# Altium schematic symbol library MCU_STC.SchLib: 10 symbols
Pins are listed as number, name and electrical type; pins without a type are passive.

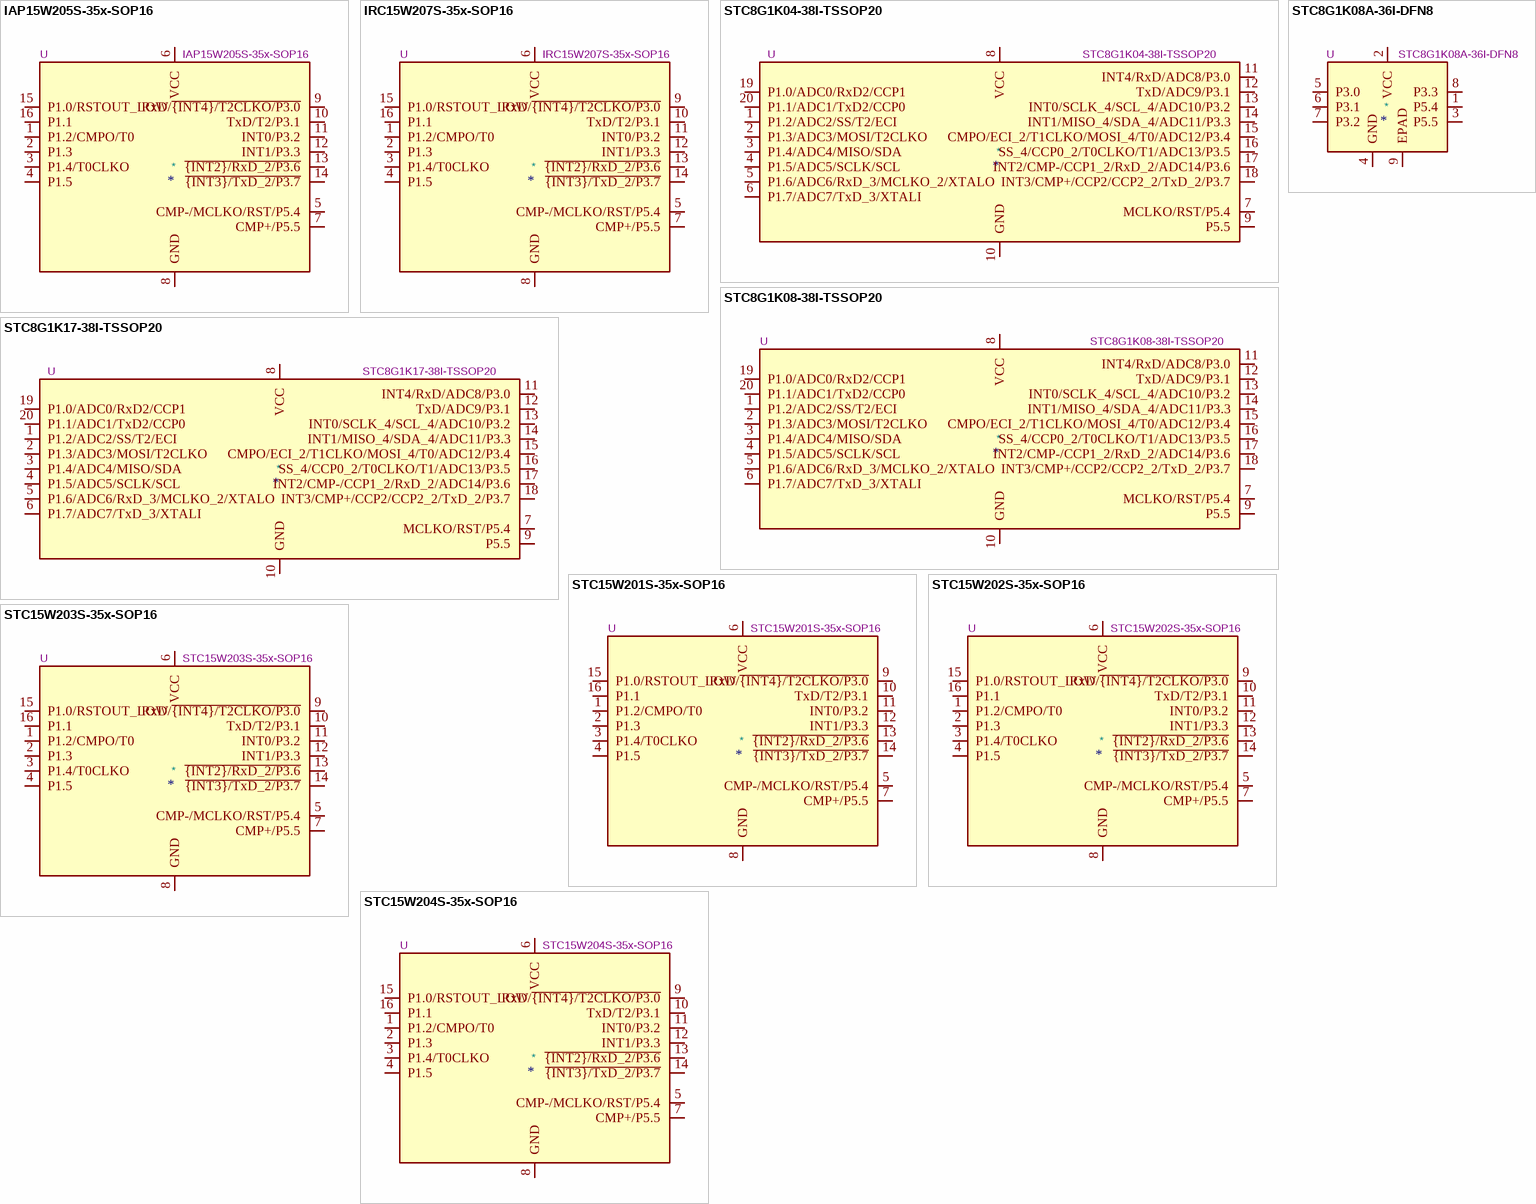
[diagram p0: symbols IAP15W205S-35x-SOP16 to STC15W204S-35x-SOP16]

## IAP15W205S-35x-SOP16
designator *  value IAP15W205S-35x-SOP16  Reference: U
Single Chip MCU based on the 8051 architecture, 5KB Flash, unified program/data memory, SOP-16; ki_keywords: STC 8051 microcontroller; ki_fp_filters: STC?SOP*3.9x9.9mm*P1.27mm*; Footprint: Package_SO:STC_SOP-16_3.9x9.9mm_P1.27mm; Datasheet: www.stcmicro.com/datasheet/STC15F2K60S2-en.pdf; Description_: Single Chip MCU based on the 8051 architecture, 5KB Flash, unified program/data memory, SOP-16
pins: 1 P1.2/CMPO/T0, 2 P1.3, 3 P1.4/T0CLKO, 4 P1.5, 5 CMP-/MCLKO/RST/P5.4, 6 VCC, 7 CMP+/P5.5, 8 GND, 9 RxD/~{{INT4}/T2CLKO/P3.0}, 10 TxD/T2/P3.1, 11 INT0/P3.2, 12 INT1/P3.3, 13 ~{{INT2}/RxD_2/P3.6}, 14 ~{{INT3}/TxD_2/P3.7}, 15 P1.0/RSTOUT_LOW, 16 P1.1

## IRC15W207S-35x-SOP16
designator *  value IRC15W207S-35x-SOP16  Reference: U
Single Chip MCU based on the 8051 architecture, 7.5KB Flash, unified program/data memory, fixed 24MHz Clock, SOP-16; ki_keywords: STC 8051 microcontroller; ki_fp_filters: STC?SOP*3.9x9.9mm*P1.27mm*; Footprint: Package_SO:STC_SOP-16_3.9x9.9mm_P1.27mm; Datasheet: www.stcmicro.com/datasheet/STC15F2K60S2-en.pdf; Description_: Single Chip MCU based on the 8051 architecture, 7.5KB Flash, unified program/data memory, fixed 24MHz Clock, SOP-16
pins: 1 P1.2/CMPO/T0, 2 P1.3, 3 P1.4/T0CLKO, 4 P1.5, 5 CMP-/MCLKO/RST/P5.4, 6 VCC, 7 CMP+/P5.5, 8 GND, 9 RxD/~{{INT4}/T2CLKO/P3.0}, 10 TxD/T2/P3.1, 11 INT0/P3.2, 12 INT1/P3.3, 13 ~{{INT2}/RxD_2/P3.6}, 14 ~{{INT3}/TxD_2/P3.7}, 15 P1.0/RSTOUT_LOW, 16 P1.1

## STC8G1K04-38I-TSSOP20
designator *  value STC8G1K04-38I-TSSOP20  Reference: U
Single Chip MCU based on the 8051 architecture, 4KB Flash, 8KB EEPROM, TSSOP-20; ki_keywords: STC 8051 microcontroller; ki_fp_filters: TSSOP?20*4.4x6.5mm*P0.65mm*; Footprint: Package_SO:TSSOP-20_4.4x6.5mm_P0.65mm; Datasheet: www.stcmicro.com/datasheet/STC8G-en.pdf; Description_: Single Chip MCU based on the 8051 architecture, 4KB Flash, 8KB EEPROM, TSSOP-20
pins: 1 P1.2/ADC2/SS/T2/ECI, 2 P1.3/ADC3/MOSI/T2CLKO, 3 P1.4/ADC4/MISO/SDA, 4 P1.5/ADC5/SCLK/SCL, 5 P1.6/ADC6/RxD_3/MCLKO_2/XTALO, 6 P1.7/ADC7/TxD_3/XTALI, 7 MCLKO/RST/P5.4, 8 VCC, 9 P5.5, 10 GND, 11 INT4/RxD/ADC8/P3.0, 12 TxD/ADC9/P3.1, 13 INT0/SCLK_4/SCL_4/ADC10/P3.2, 14 INT1/MISO_4/SDA_4/ADC11/P3.3, 15 CMPO/ECI_2/T1CLKO/MOSI_4/T0/ADC12/P3.4, 16 SS_4/CCP0_2/T0CLKO/T1/ADC13/P3.5, 17 INT2/CMP-/CCP1_2/RxD_2/ADC14/P3.6, 18 INT3/CMP+/CCP2/CCP2_2/TxD_2/P3.7, 19 P1.0/ADC0/RxD2/CCP1, 20 P1.1/ADC1/TxD2/CCP0

## STC8G1K08-38I-TSSOP20
designator *  value STC8G1K08-38I-TSSOP20  Reference: U
Single Chip MCU based on the 8051 architecture, 8KB Flash, 4KB EEPROM, TSSOP-20; ki_keywords: STC 8051 microcontroller; ki_fp_filters: TSSOP?20*4.4x6.5mm*P0.65mm*; Footprint: Package_SO:TSSOP-20_4.4x6.5mm_P0.65mm; Datasheet: www.stcmicro.com/datasheet/STC8G-en.pdf; Description_: Single Chip MCU based on the 8051 architecture, 8KB Flash, 4KB EEPROM, TSSOP-20
pins: 1 P1.2/ADC2/SS/T2/ECI, 2 P1.3/ADC3/MOSI/T2CLKO, 3 P1.4/ADC4/MISO/SDA, 4 P1.5/ADC5/SCLK/SCL, 5 P1.6/ADC6/RxD_3/MCLKO_2/XTALO, 6 P1.7/ADC7/TxD_3/XTALI, 7 MCLKO/RST/P5.4, 8 VCC, 9 P5.5, 10 GND, 11 INT4/RxD/ADC8/P3.0, 12 TxD/ADC9/P3.1, 13 INT0/SCLK_4/SCL_4/ADC10/P3.2, 14 INT1/MISO_4/SDA_4/ADC11/P3.3, 15 CMPO/ECI_2/T1CLKO/MOSI_4/T0/ADC12/P3.4, 16 SS_4/CCP0_2/T0CLKO/T1/ADC13/P3.5, 17 INT2/CMP-/CCP1_2/RxD_2/ADC14/P3.6, 18 INT3/CMP+/CCP2/CCP2_2/TxD_2/P3.7, 19 P1.0/ADC0/RxD2/CCP1, 20 P1.1/ADC1/TxD2/CCP0

## STC8G1K08A-36I-DFN8
designator *  value STC8G1K08A-36I-DFN8  Reference: U
Single Chip MCU based on the 8051 architecture, 8KiB Flash, 1.25KiB SRAM, 4KiB EEPROM, 1.9..5.5V, 36 MHz, 6 GPIO, DFN-8; ki_keywords: STC microcontroller I2C SPI UART PWM ADC ISP; ki_fp_filters: *DFN*3x3mm*P0.5mm*EP1.7x2.4mm*; Footprint: Package_DFN_QFN:DFN-8-1EP_3x3mm_P0.5mm_EP1.7x2.4mm; Datasheet: https://stcmicro.com/datasheet/STC8G-en.pdf; Description_: Single Chip MCU based on the 8051 architecture, 8KiB Flash, 1.25KiB SRAM, 4KiB EEPROM, 1.9..5.5V, 36 MHz, 6 GPIO, DFN-8
pins: 1 P5.4, 2 VCC, 3 P5.5, 4 GND, 5 P3.0, 6 P3.1, 7 P3.2, 8 P3.3, 9 EPAD

## STC8G1K17-38I-TSSOP20
designator *  value STC8G1K17-38I-TSSOP20  Reference: U
Single Chip MCU based on the 8051 architecture, 17KB Flash, IAP, TSSOP-20; ki_keywords: STC 8051 microcontroller; ki_fp_filters: TSSOP?20*4.4x6.5mm*P0.65mm*; Footprint: Package_SO:TSSOP-20_4.4x6.5mm_P0.65mm; Datasheet: www.stcmicro.com/datasheet/STC8G-en.pdf; Description_: Single Chip MCU based on the 8051 architecture, 17KB Flash, IAP, TSSOP-20
pins: 1 P1.2/ADC2/SS/T2/ECI, 2 P1.3/ADC3/MOSI/T2CLKO, 3 P1.4/ADC4/MISO/SDA, 4 P1.5/ADC5/SCLK/SCL, 5 P1.6/ADC6/RxD_3/MCLKO_2/XTALO, 6 P1.7/ADC7/TxD_3/XTALI, 7 MCLKO/RST/P5.4, 8 VCC, 9 P5.5, 10 GND, 11 INT4/RxD/ADC8/P3.0, 12 TxD/ADC9/P3.1, 13 INT0/SCLK_4/SCL_4/ADC10/P3.2, 14 INT1/MISO_4/SDA_4/ADC11/P3.3, 15 CMPO/ECI_2/T1CLKO/MOSI_4/T0/ADC12/P3.4, 16 SS_4/CCP0_2/T0CLKO/T1/ADC13/P3.5, 17 INT2/CMP-/CCP1_2/RxD_2/ADC14/P3.6, 18 INT3/CMP+/CCP2/CCP2_2/TxD_2/P3.7, 19 P1.0/ADC0/RxD2/CCP1, 20 P1.1/ADC1/TxD2/CCP0

## STC15W201S-35x-SOP16
designator *  value STC15W201S-35x-SOP16  Reference: U
Single Chip MCU based on the 8051 architecture, 1KB Flash, 4KB EEPROM, SOP-16; ki_keywords: STC 8051 microcontroller; ki_fp_filters: STC?SOP*3.9x9.9mm*P1.27mm*; Footprint: Package_SO:STC_SOP-16_3.9x9.9mm_P1.27mm; Datasheet: www.stcmicro.com/datasheet/STC15F2K60S2-en.pdf; Description_: Single Chip MCU based on the 8051 architecture, 1KB Flash, 4KB EEPROM, SOP-16
pins: 1 P1.2/CMPO/T0, 2 P1.3, 3 P1.4/T0CLKO, 4 P1.5, 5 CMP-/MCLKO/RST/P5.4, 6 VCC, 7 CMP+/P5.5, 8 GND, 9 RxD/~{{INT4}/T2CLKO/P3.0}, 10 TxD/T2/P3.1, 11 INT0/P3.2, 12 INT1/P3.3, 13 ~{{INT2}/RxD_2/P3.6}, 14 ~{{INT3}/TxD_2/P3.7}, 15 P1.0/RSTOUT_LOW, 16 P1.1

## STC15W202S-35x-SOP16
designator *  value STC15W202S-35x-SOP16  Reference: U
Single Chip MCU based on the 8051 architecture, 2KB Flash, 3KB EEPROM, SOP-16; ki_keywords: STC 8051 microcontroller; ki_fp_filters: STC?SOP*3.9x9.9mm*P1.27mm*; Footprint: Package_SO:STC_SOP-16_3.9x9.9mm_P1.27mm; Datasheet: www.stcmicro.com/datasheet/STC15F2K60S2-en.pdf; Description_: Single Chip MCU based on the 8051 architecture, 2KB Flash, 3KB EEPROM, SOP-16
pins: 1 P1.2/CMPO/T0, 2 P1.3, 3 P1.4/T0CLKO, 4 P1.5, 5 CMP-/MCLKO/RST/P5.4, 6 VCC, 7 CMP+/P5.5, 8 GND, 9 RxD/~{{INT4}/T2CLKO/P3.0}, 10 TxD/T2/P3.1, 11 INT0/P3.2, 12 INT1/P3.3, 13 ~{{INT2}/RxD_2/P3.6}, 14 ~{{INT3}/TxD_2/P3.7}, 15 P1.0/RSTOUT_LOW, 16 P1.1

## STC15W203S-35x-SOP16
designator *  value STC15W203S-35x-SOP16  Reference: U
Single Chip MCU based on the 8051 architecture, 3KB Flash, 2KB EEPROM, SOP-16; ki_keywords: STC 8051 microcontroller; ki_fp_filters: STC?SOP*3.9x9.9mm*P1.27mm*; Footprint: Package_SO:STC_SOP-16_3.9x9.9mm_P1.27mm; Datasheet: www.stcmicro.com/datasheet/STC15F2K60S2-en.pdf; Description_: Single Chip MCU based on the 8051 architecture, 3KB Flash, 2KB EEPROM, SOP-16
pins: 1 P1.2/CMPO/T0, 2 P1.3, 3 P1.4/T0CLKO, 4 P1.5, 5 CMP-/MCLKO/RST/P5.4, 6 VCC, 7 CMP+/P5.5, 8 GND, 9 RxD/~{{INT4}/T2CLKO/P3.0}, 10 TxD/T2/P3.1, 11 INT0/P3.2, 12 INT1/P3.3, 13 ~{{INT2}/RxD_2/P3.6}, 14 ~{{INT3}/TxD_2/P3.7}, 15 P1.0/RSTOUT_LOW, 16 P1.1

## STC15W204S-35x-SOP16
designator *  value STC15W204S-35x-SOP16  Reference: U
Single Chip MCU based on the 8051 architecture, 4KB Flash, 1KB EEPROM, SOP-16; ki_keywords: STC 8051 microcontroller; ki_fp_filters: STC?SOP*3.9x9.9mm*P1.27mm*; Footprint: Package_SO:STC_SOP-16_3.9x9.9mm_P1.27mm; Datasheet: www.stcmicro.com/datasheet/STC15F2K60S2-en.pdf; Description_: Single Chip MCU based on the 8051 architecture, 4KB Flash, 1KB EEPROM, SOP-16
pins: 1 P1.2/CMPO/T0, 2 P1.3, 3 P1.4/T0CLKO, 4 P1.5, 5 CMP-/MCLKO/RST/P5.4, 6 VCC, 7 CMP+/P5.5, 8 GND, 9 RxD/~{{INT4}/T2CLKO/P3.0}, 10 TxD/T2/P3.1, 11 INT0/P3.2, 12 INT1/P3.3, 13 ~{{INT2}/RxD_2/P3.6}, 14 ~{{INT3}/TxD_2/P3.7}, 15 P1.0/RSTOUT_LOW, 16 P1.1